# EAGLE library part 74AC11SC (library Fairchild_By_element14_Batch_1)
Triple 3-Input AND Gate
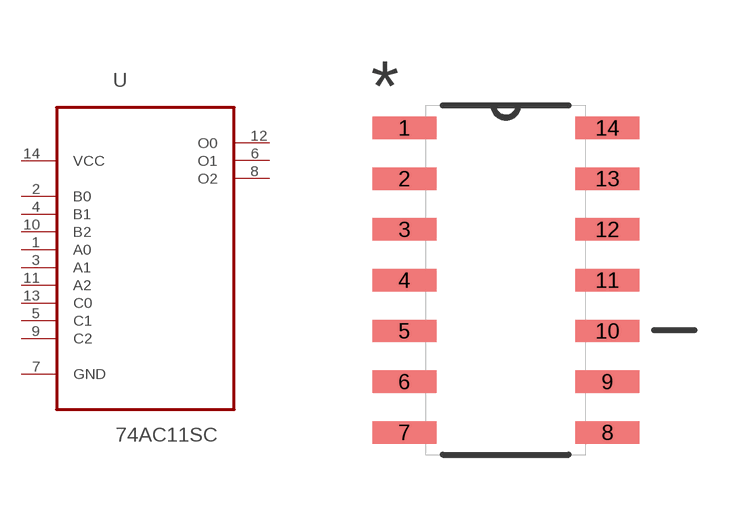
[diagram p12: symbol with the pads of SOIC127P600X175-14N; footprint SOIC127P600X175-14N]

Designator prefix U

## 74AC11SC (MPN: 74AC11SC; OC_FARNELL: -; OC_NEWARK: 78K6201; PACKAGE: SOIC-14; SUPPLIER: Fairchild)  [SOIC127P600X175-14N]
1  A0  in
2  B0  in
3  A1  in
4  B1  in
5  C1  in
6  O1  out
7  GND  pas
8  O2  out
9  C2  in
10  B2  in
11  A2  in
12  O0  out
13  C0  in
14  VCC  pwr

## Footprint SOIC127P600X175-14N (pad centres in mm)
smd 1.6 x 0.559: 1 -2.54,3.81; 2 -2.54,2.54; 3 -2.54,1.27; 4 -2.54,0; 5 -2.54,-1.27; 6 -2.54,-2.54; 7 -2.54,-3.81; 8 2.54,-3.81; 9 2.54,-2.54; 10 2.54,-1.27; 11 2.54,0; 12 2.54,1.27; 13 2.54,2.54; 14 2.54,3.81